# EAGLE library part MCP1642B (library dooba)
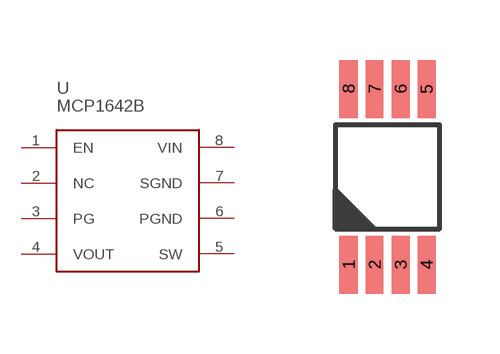
[diagram p50: symbol with the pads of MSOP8; footprint MSOP8]

Designator prefix U

## MCP1642B  [MSOP8]
1  EN
2  NC
3  PG
4  VOUT
5  SW
6  PGND
7  SGND
8  VIN

## Footprint MSOP8 (pad centres in mm)
smd 0.45 x 1.45: 1 -0.975,-2.2; 2 -0.325,-2.2; 3 0.325,-2.2; 4 0.975,-2.2; 5 0.975,2.2; 6 0.325,2.2; 7 -0.325,2.2; 8 -0.975,2.2